# Altium schematic symbol library Zener.Schlib: 1 symbol
Pins are listed as number, name and electrical type; pins without a type are passive.

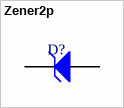
[diagram p0: symbol Zener2p]

## Zener2p
designator D?
pins: 1 K, 2 A
1 alternate drawing of the same symbol